# Altium footprint library IRF9383MTRPBF.PcbLib: 2 footprints
Each footprint in its own frame and in the unit in brackets; x right, y up, seen from the top. Pads: shape width x height; smd on the part's side, far side on the other; paste and mask are expansions set on the pad; w line width, h text height; cw(c..) or ccw(c..) is an arc to the next point about the centre after c.
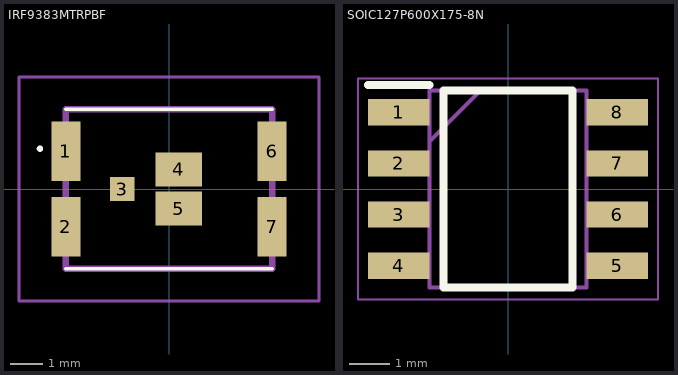
[diagram p0: the footprints below, top view; thin cyan lines are the x and y axes]

## IRF9383MTRPBF [mm]
pads (7):
  rect 0.9x1.85 smd: 1(-3.2,1.175) 2(-3.2,-1.175) 6(3.2,1.175) 7(3.2,-1.175)
  rect 0.75x0.75 smd: 3(-1.45,0)
  rect 1.45x1.05 smd: 4(0.3,0.61) 5(0.3,-0.61)
Top Overlay:
  lines w0.1: -3.2,-2.475 3.2,-2.475 ; -3.2,2.475 3.2,2.475 ; -4,1.2 cw(c-4,1.25) -4,1.3 cw(c-4,1.25) -4,1.2
Mechanical 13:
  lines w0.2: -3.2,-2.475 3.2,-2.475 3.2,2.475 -3.2,2.475 -3.2,-2.475
Mechanical 15:
  lines w0.1: -4.65,-3.475 4.65,-3.475 4.65,3.475 -4.65,3.475 -4.65,-3.475
3D body "IRF9383MTRPBF.stp": height 0.8, standoff 0, extent -3.56,-2.475 3.56,2.475

## SOIC127P600X175-8N [mm]
pads (8):
  rect 1.525x0.65 smd: 1(-2.712,1.905) 2(-2.712,0.635) 3(-2.712,-0.635) 4(-2.712,-1.905) 5(2.712,-1.905) 6(2.712,-0.635) 7(2.712,0.635) 8(2.712,1.905)
Top Overlay:
  lines w0.2: -3.475,2.58 -1.95,2.58 ; -1.6,-2.45 1.6,-2.45 1.6,2.45 -1.6,2.45 -1.6,-2.45
Mechanical 13:
  lines w0.1: -1.95,1.18 -0.68,2.45 ; -1.95,-2.45 1.95,-2.45 1.95,2.45 -1.95,2.45 -1.95,-2.45
Mechanical 15:
  lines w0.05: -3.725,-2.75 3.725,-2.75 3.725,2.75 -3.725,2.75 -3.725,-2.75
3D body "NE555DR.stp": height 1.75, standoff 0, extent -3,-2.45 3,2.45